# Altium footprint library CONN_TERMBLOCK.PcbLib: 11 footprints
Each footprint in its own frame and in the unit in brackets; x right, y up, seen from the top. Pads: shape width x height; smd on the part's side, far side on the other; paste and mask are expansions set on the pad; w line width, h text height; cw(c..) or ccw(c..) is an arc to the next point about the centre after c.
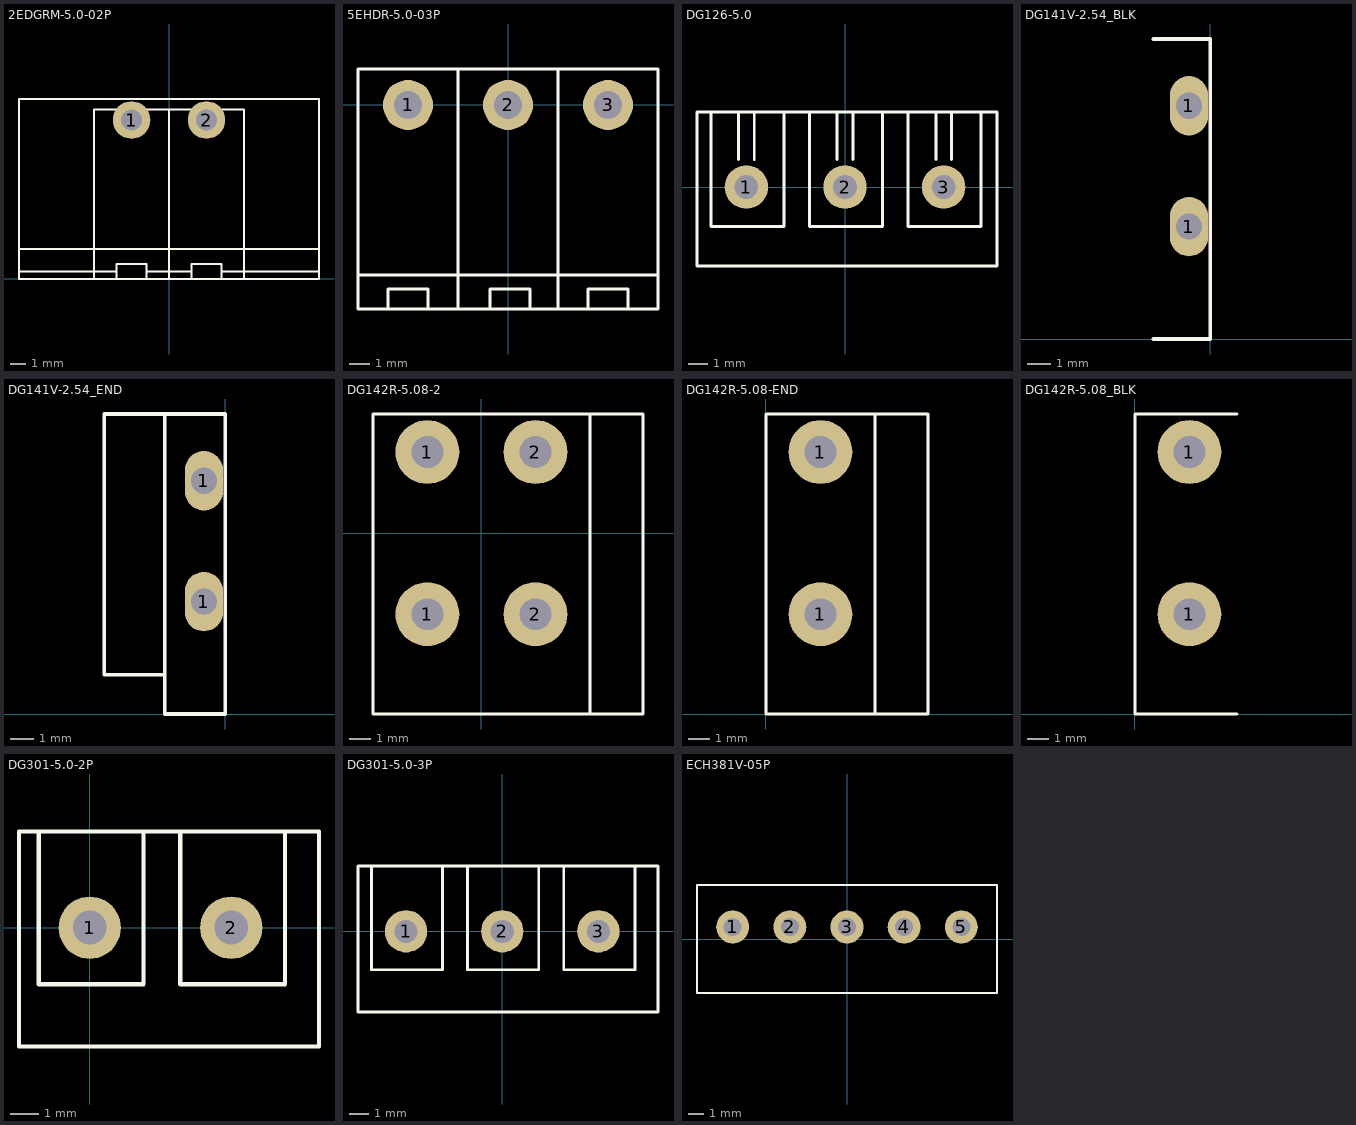
[diagram p0: the footprints below, top view; thin cyan lines are the x and y axes]

## 2EDGRM-5.0-02P [mm]
pads (2):
  round 2.5 hole 1.4: 1(-2.5,10.6) 2(2.5,10.6)
Top Overlay:
  lines w0.15: -10,0.5 -3.5,0.5 ; -10,2 10,2 ; -5,0 -5,11.3 5,11.3 5,0 ; -3.5,0 -3.5,1 -1.5,1 -1.5,0 ; -1.5,0.5 1.5,0.5 ; 0,0 0,11.3 ; 1.5,0 1.5,1 3.5,1 3.5,0 ; 3.5,0.5 10,0.5 ; -10,0 -10,12 10,12 10,0 -10,0
Mechanical 14:
  lines w0.1: -10,0 10,0 10,12 -10,12 -10,0
  text ".Designator" at -1.4,5.066 h2
3D body "2EDGRM-5.0-02P.STEP": height 8.8, standoff -3.22, extent -10,0 10,12

## 5EHDR-5.0-03P [mm]
pads (3):
  round 2.5 hole 1.4: 1(-5,0) 2(0,0) 3(5,0)
Top Overlay:
  lines w0.15: -7.5,-8.5 7.5,-8.5 ; -6,-10.2 -6,-9.2 -4,-9.2 -4,-10.2 ; -2.5,-10.2 -2.5,1.8 ; -0.9,-10.2 -0.9,-9.2 1.1,-9.2 1.1,-10.2 ; 2.5,-10.2 2.5,1.8 ; 4,-10.2 4,-9.2 6,-9.2 6,-10.2 ; -7.5,-10.2 -7.5,1.8 7.5,1.8 7.5,-10.2 -7.5,-10.2
Mechanical 14:
  lines w0.1: -7.5,-10.2 7.5,-10.2 7.5,1.8 -7.5,1.8 -7.5,-10.2
  text ".Designator" at -1.1,-5.067 h1
3D body "5EHDR_1P.step": height 8.52, standoff -3.95, extent -7.5,-10.2 -2.5,1.8
3D body "5EHDR_1P.step": height 8.52, standoff -3.95, extent -2.5,-10.2 2.5,1.8
3D body "5EHDR_1P.step": height 8.52, standoff -3.95, extent 2.5,-10.2 7.5,1.8

## DG126-5.0 [mm]
pads (3):
  round 2.2 hole 1.2: 1(-5,0) 2(0,0) 3(5,0)
Top Overlay:
  lines w0.15: -6.8,3.8 -6.8,-2 -3.1,-2 -3.1,3.8 ; -5.4,1.4 -5.4,3.8 ; -4.6,1.4 -4.6,3.8 ; -1.8,3.8 -1.8,-2 1.9,-2 1.9,3.8 ; -0.4,1.4 -0.4,3.8 ; 0.4,1.4 0.4,3.8 ; 3.2,3.8 3.2,-2 6.9,-2 6.9,3.8 ; 4.6,1.4 4.6,3.8 ; 5.4,1.4 5.4,3.8 ; -7.5,-4 -7.5,3.8 7.7,3.8 7.7,-4 -7.5,-4
Mechanical 1:
  text ".Designator" at -1.3,-2.467 h1
3D body "User Library-DG126-5_0-03P.STEP": height 10.3, standoff -2.09, extent -7.525,-4 7.725,3.8

## DG141V-2.54_BLK [mm]
height 13.4
pads (2):
  oval 1.6x2.5 hole 1.1: 1(-0.9,4.72) 1(-0.9,9.8)
Top Overlay:
  lines w0.15: -2.4,0 0,0 0,12.6 -2.4,12.6
3D body "User Library-DG141V.step": height 3, standoff -14.1, extent -2.54,0 0,12.6

## DG141V-2.54_END [mm]
height 13.4
pads (2):
  oval 1.6x2.5 hole 1.1: 1(-0.9,4.72) 1(-0.9,9.8)
Top Overlay:
  lines w0.15: -2.6,1.651 -5.08,1.651 -5.08,12.6 -2.54,12.6 ; -2.54,12.6 0,12.6 0,0 -2.54,0 -2.54,12.6
3D body "User Library-DG141V_endcap.STEP": height -0.5, standoff -14.1, extent -5.08,1.648 -2.54,12.6
3D body "User Library-DG141V.step": height 3, standoff -14.1, extent -2.54,0 0,12.6

## DG142R-5.08-2 [mm]
height 13.4
pads (4):
  round 3 hole 1.5: 1(-2.54,-3.81) 1(-2.54,3.81) 2(2.54,-3.81) 2(2.54,3.81)
Top Overlay:
  lines w0.15: 5.1,-8.5 -5.1,-8.5 -5.1,5.6 5.1,5.6 ; 5.1,-8.5 5.1,5.6 ; 5.1,-8.5 7.6,-8.5 7.6,5.6 5.1,5.6
Mechanical 1:
  text ".Designator" at -2.3,-0.067 h1

## DG142R-5.08-END [mm]
height 13.4
pads (2):
  round 3 hole 1.5: 1(2.56,4.69) 1(2.56,12.31)
Top Overlay:
  lines w0.15: 5.12,0 5.12,14.1 ; 5.12,0 7.62,0 7.62,14.1 5.12,14.1 ; 5.12,0 0,0 0,14.1 5.12,14.1
Mechanical 1:
  text ".Designator" at 1.82,7.633 h1

## DG142R-5.08_BLK [mm]
height 13.4
pads (2):
  round 3 hole 1.5: 1(2.56,4.69) 1(2.56,12.31)
Top Overlay:
  lines w0.15: 4.8,0 0,0 0,14.1 4.8,14.1

## DG301-5.0-2P [mm]
pads (2):
  round 2.2 hole 1.2: 1(0,0) 2(5,0)
Top Overlay:
  lines w0.15: -1.8,3.4 -1.8,-2 1.9,-2 1.9,3.4 ; 3.2,3.4 3.2,-2 6.9,-2 6.9,3.4 ; -2.5,-4.2 8.1,-4.2 8.1,3.4 -2.5,3.4 -2.5,-4.2
Mechanical 1:
  text ".Designator" at 3.7,-2.467 h1
3D body "DG301-5_0-2P12.STEP": height 10, standoff -4.16, extent -2.5,-4.2 8.1,3.4

## DG301-5.0-3P [mm]
pads (3):
  round 2.2 hole 1.2: 1(-5,0) 2(0,0) 3(5,0)
Top Overlay:
  lines w0.15: -6.8,3.4 -6.8,-2 -3.1,-2 -3.1,3.4 ; -1.8,3.4 -1.8,-2 1.9,-2 1.9,3.4 ; 3.2,3.4 3.2,-2 6.9,-2 6.9,3.4 ; -7.5,-4.2 8.1,-4.2 8.1,3.4 -7.5,3.4 -7.5,-4.2
Mechanical 1:
  text ".Designator" at -1.3,-2.467 h1
3D body "DG301-5_0-3P12.STEP": height 10, standoff -4.16, extent -7.5,-4.2 8.1,3.4

## ECH381V-05P [mm]
pads (5):
  round 2.2 hole 1.2: 1(-7.62,0.8) 2(-3.81,0.8) 3(0,0.8) 4(3.81,0.8) 5(7.62,0.8)
Top Overlay:
  lines w0.15: -10,-3.6 10,-3.6 10,3.6 -10,3.6 -10,-3.6
Mechanical 1:
  text ".Designator" at -2,-1.967 h1
3D body "User Library-ECH381V-03P.step": height 9.2, standoff -3.4, extent -9.989,-3.6 2.231,3.6
3D body "User Library-ECH381V-02P.step": height 9.2, standoff -3.4, extent 1.581,-3.6 9.991,3.6